# Altium footprint library MF_Switches.PCBLIB: 2 footprints
Each footprint in its own frame and in the unit in brackets; x right, y up, seen from the top. Pads: shape width x height; smd on the part's side, far side on the other; paste and mask are expansions set on the pad; w line width, h text height; cw(c..) or ccw(c..) is an arc to the next point about the centre after c.
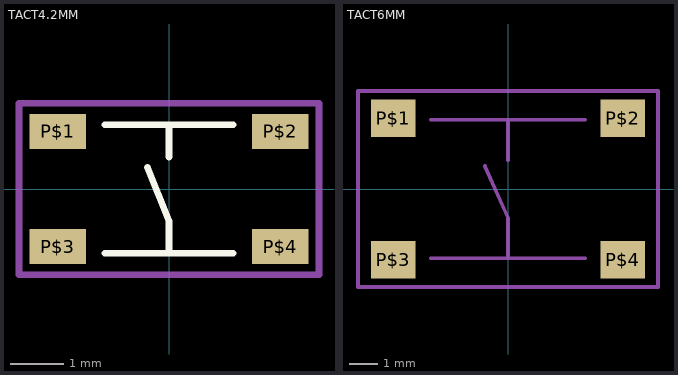
[diagram p0: the footprints below, top view; thin cyan lines are the x and y axes]

## TACT4.2MM [mm]
pads (4):
  rect 1.05x0.65 smd: P$1(-2.075,1.075) P$2(2.075,1.075) P$3(-2.075,-1.075) P$4(2.075,-1.075)
Top Overlay:
  lines w0.127: -1.2,-1.2 0,-1.2 ; -1.2,1.2 0,1.2 ; -0.4,0.4 0,-0.6 0,-1.2 ; 0,0.6 0,1.2 ; 1.2,-1.2 0,-1.2 ; 1.2,1.2 0,1.2
Mechanical 22:
  lines w0.127: -2.8,-1.6 2.8,-1.6 2.8,1.6 -2.8,1.6 -2.8,-1.6

## TACT6MM [mil]
pads (4):
  rect 61.02x51.18 smd: P$1(-156.5,96.46) P$2(156.5,96.46) P$3(-156.5,-96.46) P$4(156.5,-96.46)
Mechanical 22:
  lines w5: -105.12,-94.49 0,-94.49 ; -105.12,94.49 0,94.49 ; -31.5,31.5 0,-39.37 0,-94.49 ; 0,39.37 0,94.49 ; 105.12,-94.49 0,-94.49 ; 105.12,94.49 0,94.49 ; -204.72,-133.86 -204.72,133.86 204.72,133.86 204.72,-133.86 -204.72,-133.86